# Altium footprint library SOT-25.PcbLib: 1 footprints
Each footprint in its own frame and in the unit in brackets; x right, y up, seen from the top. Pads: shape width x height; smd on the part's side, far side on the other; paste and mask are expansions set on the pad; w line width, h text height; cw(c..) or ccw(c..) is an arc to the next point about the centre after c.
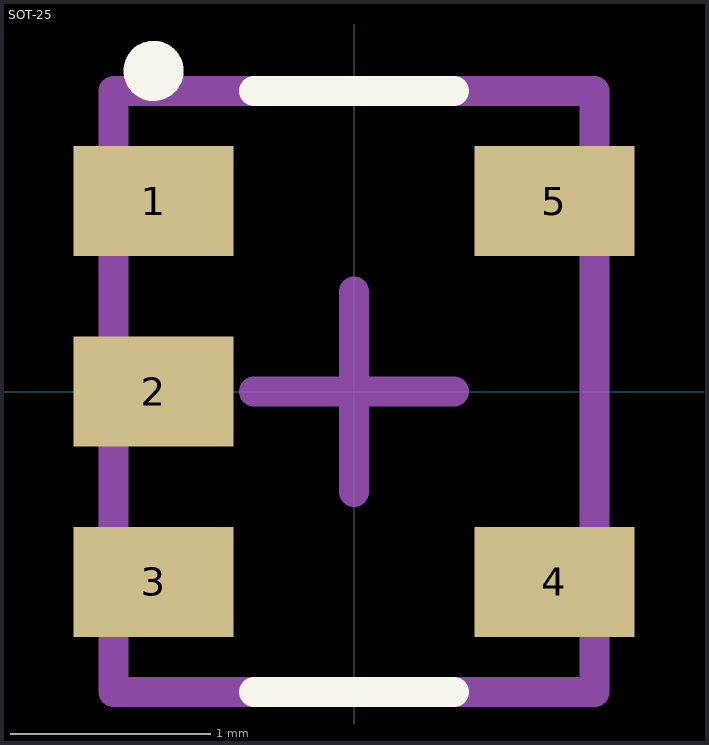
[diagram p0: the footprint, top view; thin cyan lines are the x and y axes]

## SOT-25 [mm]
pads (5):
  rect 0.8x0.55 smd paste+0 mask+0.05: 1(-1,0.95) 2(-1,0) 3(-1,-0.95) 4(1,-0.95) 5(1,0.95)
Top Overlay:
  circle w0.15: c-1,1.6 r0.075
  lines w0.15: -0.5,-1.5 0.5,-1.5 ; -0.5,1.5 0.5,1.5
Top Designator:
  text ".Designator" at -7.618,-0.47 h1.52
3D Body:
  lines w0.15: -1.2,-1.5 1.2,-1.5 1.2,1.5 -1.2,1.5 -1.2,-1.5
Center Cross:
  lines w0.15: -0.5,0 0,0 ; 0,-0.5 0,0 ; 0,0.5 0,0 ; 0.5,0 0,0
3D body "User Library-sot25.step": height 1.16, standoff 0.01, extent -1.2,-1.5 1.2,1.5